# Altium footprint library R0603 - YAGEO.PcbLib: 1 footprints
Each footprint in its own frame and in the unit in brackets; x right, y up, seen from the top. Pads: shape width x height; smd on the part's side, far side on the other; paste and mask are expansions set on the pad; w line width, h text height; cw(c..) or ccw(c..) is an arc to the next point about the centre after c.
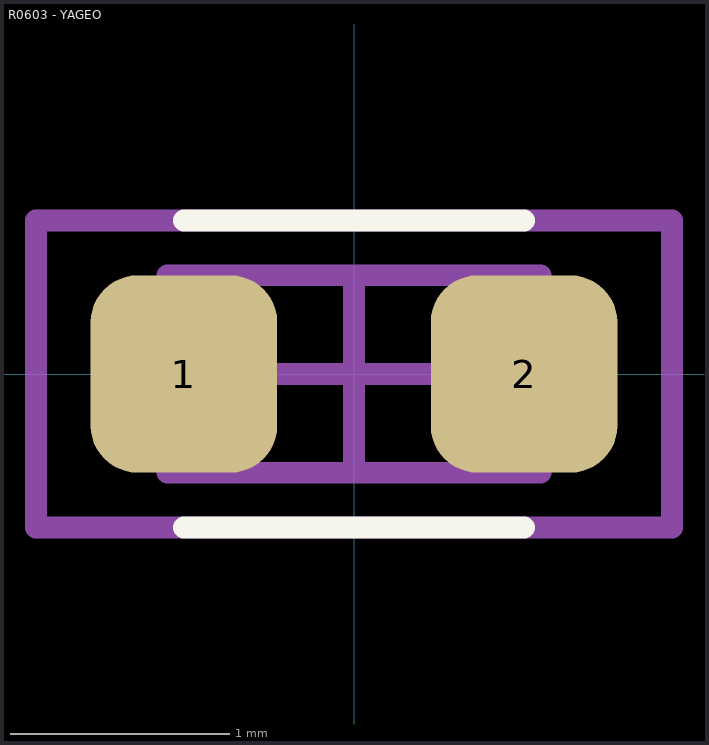
[diagram p0: the footprint, top view; thin cyan lines are the x and y axes]

## R0603 - YAGEO [mm]
pads (2):
  rrect50% 0.85x0.9 smd: 1(-0.775,0) 2(0.775,0)
Top Overlay:
  lines w0.1: -0.775,-0.7 0.775,-0.7 ; -0.775,0.7 0.775,0.7
Top 3D Body:
  lines w0.1: -0.85,-0.45 0.85,-0.45 0.85,0.45 -0.85,0.45 -0.85,-0.45
Top Courtyard:
  lines w0.1: -0.45,0 0.45,0 ; 0,-0.45 0,0.45 ; -1.45,-0.7 1.45,-0.7 1.45,0.7 -1.45,0.7 -1.45,-0.7
Top Designator (Mech29):
  text ".Designator" at -1.25,-1.083 h0.25
3D body "R0603.step": height 0.55, standoff 0, extent -0.85,-0.45 0.85,0.45